# EAGLE library part 22V10 (library eecs346-parts)
PAL
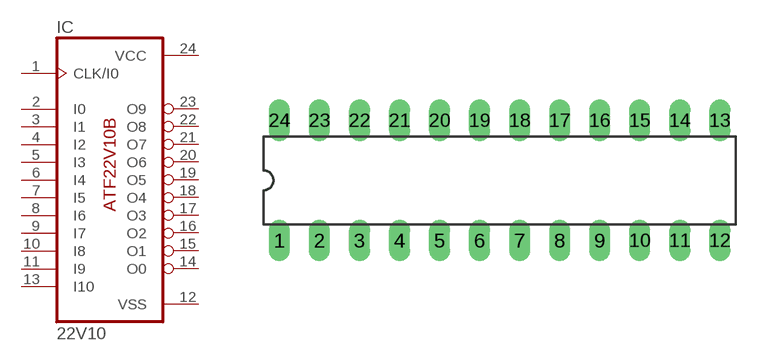
[diagram p4: symbol with the pads of DIL24-3; footprint DIL24-3]

Designator prefix IC

## 22V10 (MPN: GAL22V10D-7LPN; OC_FARNELL: 1571925; OC_NEWARK: 97M0480)  [DIL24-3]
1  CLK/I0  in
2  I0  in
3  I1  in
4  I2  in
5  I3  in
6  I4  in
7  I5  in
8  I6  in
9  I7  in
10  I8  in
11  I9  in
12  VSS
13  I10  in
14  O0
15  O1
16  O2
17  O3
18  O4
19  O5
20  O6
21  O7
22  O8
23  O9
24  VCC

## Footprint DIL24-3 (pad centres in mm)
Dual In Line Package 0.3 inch
drill 0.813 long: 1 -13.97,-3.81; 2 -11.43,-3.81; 3 -8.89,-3.81; 4 -6.35,-3.81; 5 -3.81,-3.81; 6 -1.27,-3.81; 7 1.27,-3.81; 8 3.81,-3.81; 9 6.35,-3.81; 10 8.89,-3.81; 11 11.43,-3.81; 12 13.97,-3.81; 13 13.97,3.81; 14 11.43,3.81; 15 8.89,3.81; 16 6.35,3.81; 17 3.81,3.81; 18 1.27,3.81; 19 -1.27,3.81; 20 -3.81,3.81; 21 -6.35,3.81; 22 -8.89,3.81; 23 -11.43,3.81; 24 -13.97,3.81